# Altium schematic symbol library MSASU32MSB5106KPNA01.SchLib: 1 symbol
Pins are listed as number, name and electrical type; pins without a type are passive.

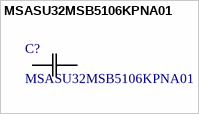
[diagram p0: symbol MSASU32MSB5106KPNA01]

## MSASU32MSB5106KPNA01
designator C?
Description; Manufacturer_Name: TAIYO YUDEN; Copyright: Copyright (C) 2026 Ultra Librarian. All rights reserved.; Manufacturer_Part_Number: MSASU32MSB5106KPNA01
footprint CAP_MSAS32-M_TAY
pins: 1, 2